# EAGLE library part ESP32WROOM (library MODULAR)
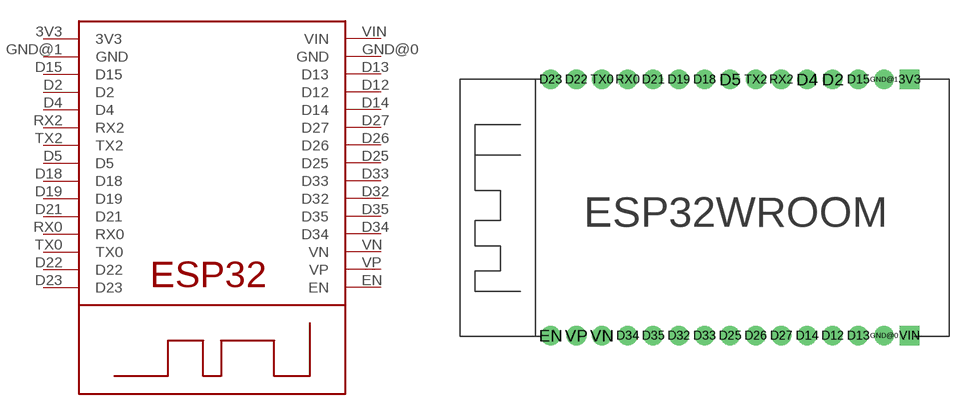
[diagram p1: symbol with the pads of ESP32WROOM; footprint ESP32WROOM]

Designator prefix -

## ESP32WROOM  [ESP32WROOM]
3V3  3V3
D2  D2
D4  D4
D5  D5
D12  D12
D13  D13
D14  D14
D15  D15
D18  D18
D19  D19
D21  D21
D22  D22
D23  D23
D25  D25
D26  D26
D27  D27
D32  D32
D33  D33
D34  D34
D35  D35
EN  EN
GND@0  GND
GND@1  GND
RX0  RX0
RX2  RX2
TX0  TX0
TX2  TX2
VIN  VIN
VN  VN
VP  VP

## Footprint ESP32WROOM (pad centres in mm)
drill 1.3 square: 3V3 18.56,14; VIN 18.56,-11.4
drill 1.3: D2 10.94,14; D4 8.4,14; D5 0.78,14; D12 10.94,-11.4; D13 13.48,-11.4; D14 8.4,-11.4; D15 13.48,14; D18 -1.76,14; D19 -4.3,14; D21 -6.84,14; D22 -14.46,14; D23 -17,14; D25 0.78,-11.4; D26 3.32,-11.4; D27 5.86,-11.4; D32 -4.3,-11.4; D33 -1.76,-11.4; D34 -9.38,-11.4; D35 -6.84,-11.4; EN -17,-11.4; GND@0 16.02,-11.4; GND@1 16.02,14; RX0 -9.38,14; RX2 5.86,14; TX0 -11.92,14; TX2 3.32,14; VN -11.92,-11.4; VP -14.46,-11.4